# EAGLE library part SI8441BB-D-IS (library 2021-12-28_14-33-01_Library)
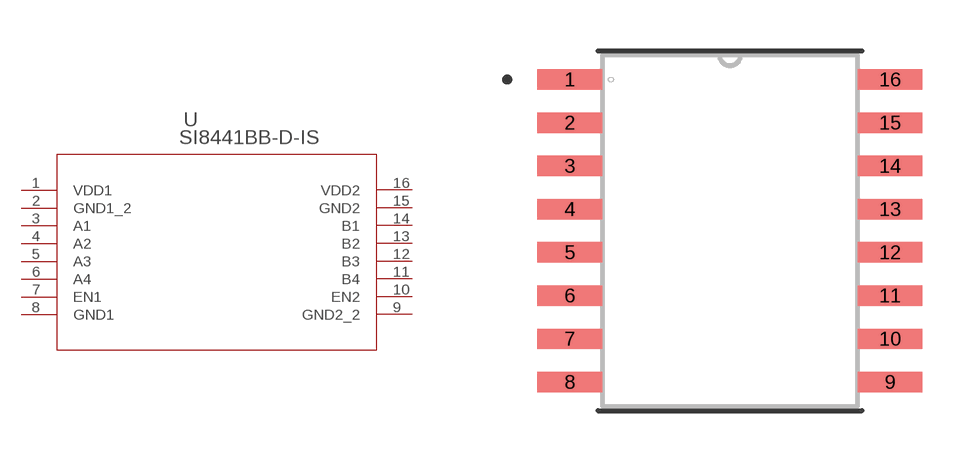
[diagram p0: symbol with the pads of SOIC-16W_SIL; footprint SOIC-16W_SIL]

Designator prefix U

## SI8441BB-D-ISSOIC-16W_SIL (Copyright: Copyright (C) 2021 Ultra Librarian. All rights reserved.; Digi-Key_Part_Number_1: 336-1762-5-ND; Manufacturer_Part_Number: SI8441BB-D-IS; Mfr_Name: Silicon Labs)  [SOIC-16W_SIL]
1  VDD1  pas
2  GND1_2  pas
3  A1  in
4  A2  in
5  A3  in
6  A4  out
7  EN1  in
8  GND1  pas
9  GND2_2  pas
10  EN2  in
11  B4  in
12  B3  out
13  B2  out
14  B1  out
15  GND2  pas
16  VDD2  pas

## Footprint SOIC-16W_SIL (pad centres in mm)
smd 1.9 x 0.6: 1 -4.7,4.445; 2 -4.7,3.175; 3 -4.7,1.905; 4 -4.7,0.635; 5 -4.7,-0.635; 6 -4.7,-1.905; 7 -4.7,-3.175; 8 -4.7,-4.445; 9 4.7,-4.445; 10 4.7,-3.175; 11 4.7,-1.905; 12 4.7,-0.635; 13 4.7,0.635; 14 4.7,1.905; 15 4.7,3.175; 16 4.7,4.445